# Altium integrated library ST Peripheral Disk Read Processor.IntLib: 1 symbol
Pins are listed as number, name and electrical type; pins without a type are passive.

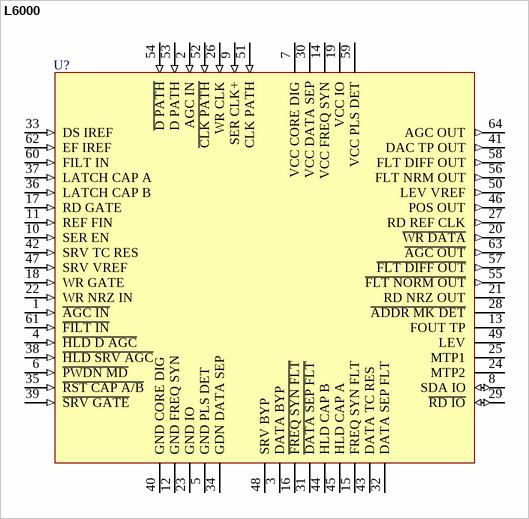
[diagram p0: symbol L6000]

## L6000
designator U?
Single Chip Read and Write Channel; Published: 24-Aug-2001; LatestRevisionDate: 26-May-2004; LatestRevisionNote: PCB Footprint adjusted to match with IPC-SM-782.; DatasheetDocument: Aug-1993; PackageDocument: Jun-2003; PackageReference: TQFP64; Publisher: Altium Limited; Code_JEDEC: MS-026; Code_IPC: SQFP10X10-64
footprint TQFP64 (QFP, Thin; 64 Leads; Body 10 x 10 mm; Pitch 0.5 mm)
pins: 1 ~{AGC IN} (in), 2 AGC IN (in), 3 DATA BYP, 4 ~{HLD D AGC} (in), 5 GND PLS DET (power), 6 ~{PWDN MD} (in), 7 VCC CORE DIG (power), 8 SDA IO (io), 9 SER CLK+ (in), 10 SER EN (in), 11 REF FIN (in), 12 GND FREQ SYN (power), 13 FOUT TP (oe), 14 VCC FREQ SYN (power), 15 FREQ SYN FLT, 16 ~{FREQ SYN FLT}, 17 RD GATE (in), 18 WR GATE (in), 19 VCC IO (power), 20 ~{WR DATA} (out), 21 RD NRZ OUT (hiz), 22 WR NRZ IN (in), 23 GND IO (power), 24 MTP2 (oe), 25 MTP1 (oe), 26 WR CLK (in), 27 RD REF CLK (out), 28 ~{ADDR MK DET} (hiz), 29 ~{RD IO} (io), 30 VCC DATA SEP (power), 31 ~{DATA SEP FLT}, 32 DATA SEP FLT, 33 DS IREF (in), 34 GDN DATA SEP (power), 35 ~{RST CAP A/B} (in), 36 LATCH CAP B (in), 37 LATCH CAP A (in), 38 ~{HLD SRV AGC} (in), 39 ~{SRV GATE} (in), 40 GND CORE DIG (power), 41 DAC TP OUT (out), 42 SRV TC RES (in), 43 DATA TC RES, 44 HLD CAP B, 45 HLD CAP A, 46 POS OUT (out), 47 SRV VREF (in), 48 SRV BYP, 49 LEV (oe), 50 LEV VREF (out), 51 CLK PATH (in), 52 ~{CLK PATH} (in), 53 D PATH (in), 54 ~{D PATH} (in), 55 ~{FLT NORM OUT} (out), 56 FLT NRM OUT (out), 57 ~{FLT DIFF OUT} (out), 58 FLT DIFF OUT (out), 59 VCC PLS DET (power), 60 FILT IN (in), 61 ~{FILT IN} (in), 62 EF IREF (in), 63 ~{AGC OUT} (out), 64 AGC OUT (out)